# Altium schematic symbol library SumWkshop.SchLib: 1 symbol
Pins are listed as number, name and electrical type; pins without a type are passive.

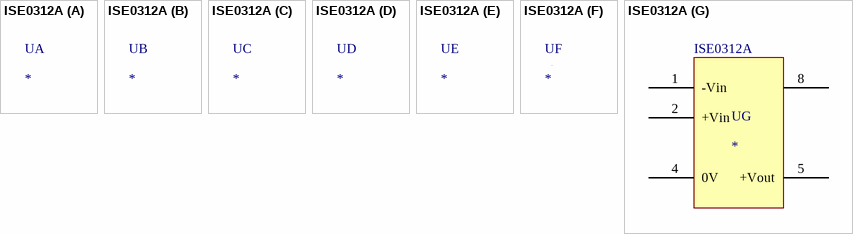
[diagram p0: symbol ISE0312A]

## ISE0312A
designator U
3V-12V DC DC converter
footprint PCBComponent_1
part G pins: 1 -Vin, 2 +Vin, 4 0V, 5 +Vout, 8